# EAGLE library part TPD6E001 (library ic-TI)
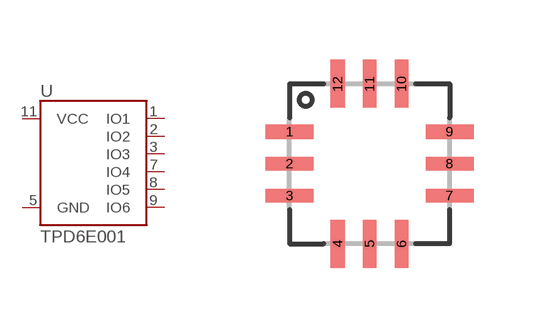
[diagram p46: symbol with the pads of QFN12-0.8-NOPAD; footprint QFN12-0.8-NOPAD]

Designator prefix U

## TPD6E001  [QFN12-0.8-NOPAD]
1  IO1
2  IO2
3  IO3
5  GND
7  IO4
8  IO5
9  IO6
11  VCC

## Footprint QFN12-0.8-NOPAD (pad centres in mm)
smd 1.2 x 0.35: 1 -2,0.8; 2 -2,0; 3 -2,-0.8; 7 2,-0.8; 8 2,0; 9 2,0.8
smd 0.35 x 1.2: 4 -0.8,-2; 5 0,-2; 6 0.8,-2; 10 0.8,2; 11 0,2; 12 -0.8,2